# EAGLE library part MHSS_MICROSLIDE (library CodeShield Parts)
APEM MHSS series micro slide switch. Vertical orientation
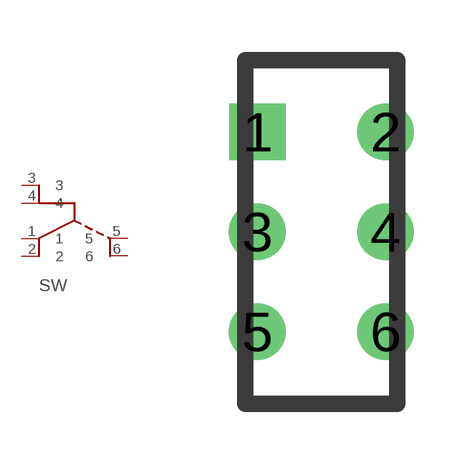
[diagram p1: symbol with the pads of SLIDE_SWITCH; footprint SLIDE_SWITCH]

Designator prefix SW

## MHSS_MICROSLIDE  [SLIDE_SWITCH]
1  1
2  2
3  3
4  4
5  5
6  6

## Footprint SLIDE_SWITCH (pad centres in mm)
drill 0.7 pad 1.422 square: 1 -1.5,2.5
drill 0.7 pad 1.422 round: 2 1.7,2.5; 3 -1.5,0; 4 1.7,0; 5 -1.5,-2.5; 6 1.7,-2.5